# Altium footprint library CX3225FB24000C0FZZH1.PcbLib: 1 footprints
Each footprint in its own frame and in the unit in brackets; x right, y up, seen from the top. Pads: shape width x height; smd on the part's side, far side on the other; paste and mask are expansions set on the pad; w line width, h text height; cw(c..) or ccw(c..) is an arc to the next point about the centre after c.
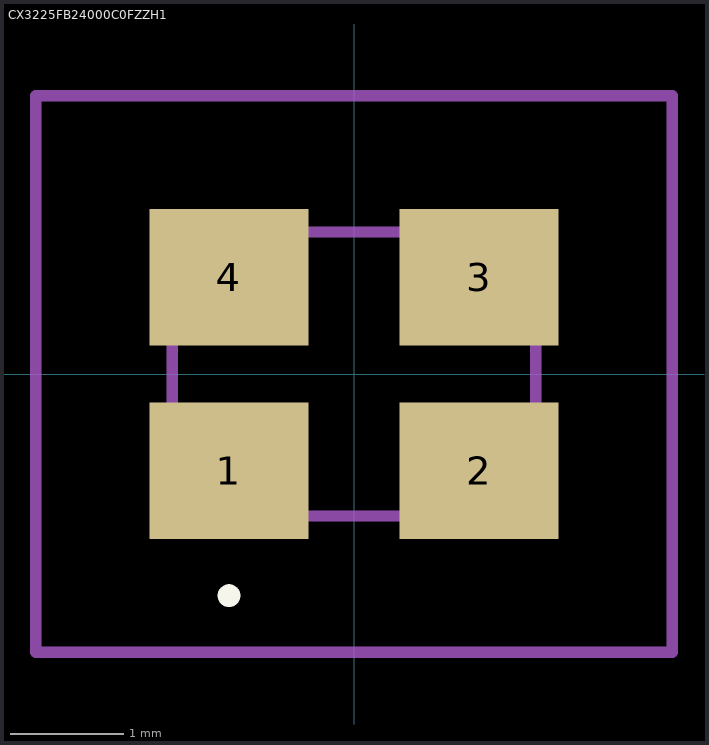
[diagram p0: the footprint, top view; thin cyan lines are the x and y axes]

## CX3225FB24000C0FZZH1 [mm]
pads (4):
  rect 1.4x1.2 smd: 1(-1.1,-0.85) 2(1.1,-0.85) 3(1.1,0.85) 4(-1.1,0.85)
Top Overlay:
  lines w0.1: -1.1,-2 -1.1,-2 ; -1.1,-2 ccw(c-1.1,-1.95) -1.1,-1.9 ; -1.1,-2 cw(c-1.1,-1.95) -1.1,-1.9 ; -1.1,-1.9 -1.1,-1.9
Mechanical 15:
  lines w0.1: -1.6,-1.25 1.6,-1.25 1.6,1.25 -1.6,1.25 -1.6,-1.25
Mechanical 20:
  lines w0.1: -2.8,-2.45 2.8,-2.45 2.8,2.45 -2.8,2.45 -2.8,-2.45